# EAGLE library part 691701340006B (library Wuerth_Elektronik_eiCan_Terminal_Blocks_v2.0)
WR-TBL SERIE 7013B 3.81MM VERTICAL PCB HEADER THR TYPE
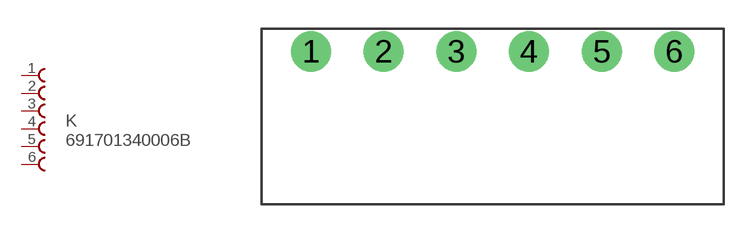
[diagram p339: symbol with the pads of 691701340006B; footprint 691701340006B]

Designator prefix K

## 691701340006B  [691701340006B]
1  1  pas
2  2  pas
3  3  pas
4  4  pas
5  5  pas
6  6  pas

## Footprint 691701340006B (pad centres in mm)
WR-TBL SERIE 7013B 3.81MM VERTICAL PCB HEADER THR TYPE
drill 1.4 round: 1 0,0; 2 3.81,0; 3 7.62,0; 4 11.43,0; 5 15.24,0; 6 19.05,0